# EAGLE library part AMP_ADA4961 (library balanced_detector_pcb)
Low Distortion, 3.2 GHz, RF DGA
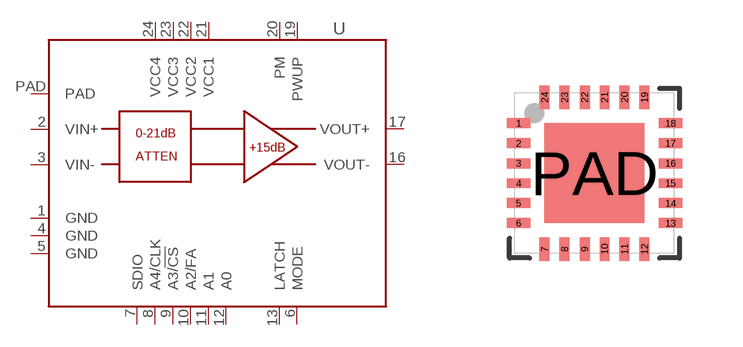
[diagram p1: symbol with the pads of LFCSP_24; footprint LFCSP_24]

Designator prefix U

## AMP_ADA4961 (MFG: ANALOG DEVICES; MPN: ADA4961ACPZN; PRICE: 35.64; VENDOR: DIGIKEY; VPN: ADA4961ACPZN-R7CT-ND)  [LFCSP_24]
1  GND  pas
2  VIN+  pas
3  VIN-  pas
4  GND  pas
5  GND  pas
6  MODE  pas
7  SDIO  pas
8  A4/CLK  pas
9  A3/!CS  pas
10  A2/FA  pas
11  A1  pas
12  A0  pas
13  LATCH  pas
16  VOUT-  pas
17  VOUT+  pas
19  PWUP  pas
20  PM  pas
21  VCC1  pas
22  VCC2  pas
23  VCC3  pas
24  VCC4  pas
PAD  PAD  pas

## Footprint LFCSP_24 (pad centres in mm)
4 mm × 4 mm Body, Very Very Thin Quad
smd 0.6 x 0.25: 1 -1.9,1.25; 2 -1.9,0.75; 3 -1.9,0.25; 4 -1.9,-0.25; 5 -1.9,-0.75; 6 -1.9,-1.25; 13 1.9,-1.25; 14 1.9,-0.75; 15 1.9,-0.25; 16 1.9,0.25; 17 1.9,0.75; 18 1.9,1.25
smd 0.25 x 0.6: 7 -1.25,-1.9; 8 -0.75,-1.9; 9 -0.25,-1.9; 10 0.25,-1.9; 11 0.75,-1.9; 12 1.25,-1.9; 19 1.25,1.9; 20 0.75,1.9; 21 0.25,1.9; 22 -0.25,1.9; 23 -0.75,1.9; 24 -1.25,1.9
smd 2.5 x 2.5: PAD 0,0